# Altium schematic symbol library lib_ic_IC.SchLib: 28 symbols
Pins are listed as number, name and electrical type; pins without a type are passive.

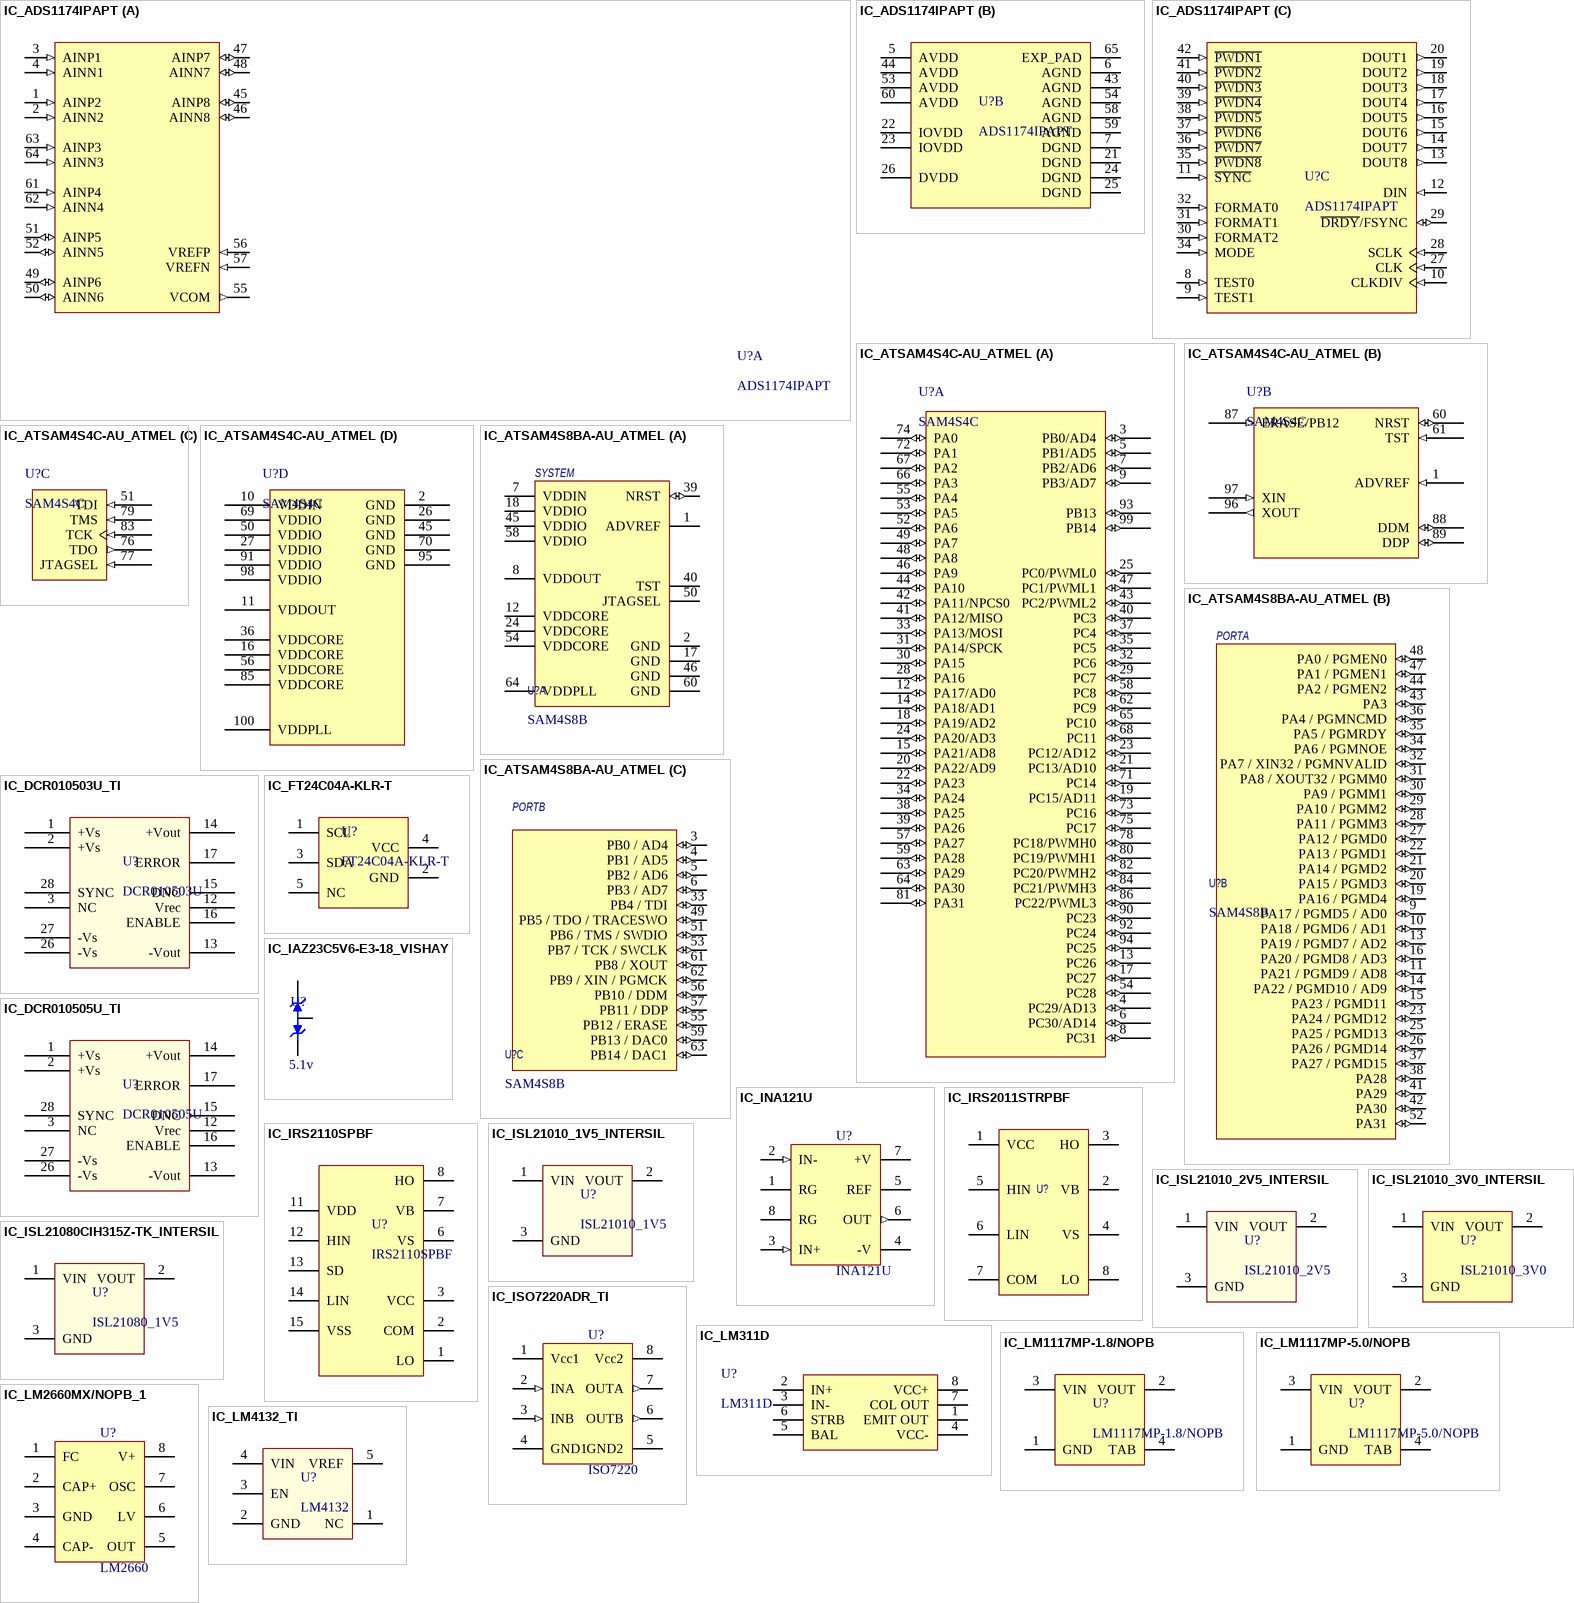
[diagram p0: symbols IC_ADS1174IPAPT to IC_LM4132_TI]

## IC_ADS1174IPAPT
designator U?, comment ADS1174IPAPT
Quad, Simultaneous Sampling, 16-Bit Analog-to-Digital Converter 64-HTQFP -40 to 85; MF: Texas Instruments; Digi-Key_Part_Number: 296-22951-1-ND; Check_prices: https://www.snapeda.com/parts/ADS1174IPAPT/Texas%20Instruments/view-part/2772521/?ref=eda; SnapEDA_Link: https://www.snapeda.com/parts/ADS1174IPAPT/Texas%20Instruments/view-part/2772521/?ref=snap; Package: HTQFP-64 Texas Instruments; Purchase-URL: https://pricing.snapeda.com/search/part/ADS1174IPAPT/?ref=eda; MP: ADS1174IPAPT; Value: *
footprint TFP410PAP
part A pins: 1 AINP2 (in), 2 AINN2 (in), 3 AINP1 (in), 4 AINN1 (in), 45 AINP8 (io), 46 AINN8 (io), 47 AINP7 (io), 48 AINN7 (io), 49 AINP6 (io), 50 AINN6 (io), 51 AINP5 (io), 52 AINN5 (io), 55 VCOM (out), 56 VREFP (in), 57 VREFN (in), 61 AINP4 (in), 62 AINN4 (in), 63 AINP3 (in), 64 AINN3 (in)
part B pins: 5 AVDD (power), 6 AGND (power), 7 DGND (power), 21 DGND (power), 22 IOVDD (power), 23 IOVDD (power), 24 DGND (power), 25 DGND (power), 26 DVDD (power), 43 AGND (power), 44 AVDD (power), 53 AVDD (power), 54 AGND (power), 58 AGND (power), 59 AGND (power), 60 AVDD (power), 65 EXP_PAD (power)
part C pins: 8 TEST0 (in), 9 TEST1 (in), 10 CLKDIV (in), 11 ~{SYNC} (in), 12 DIN (in), 13 DOUT8 (out), 14 DOUT7 (out), 15 DOUT6 (out), 16 DOUT5 (out), 17 DOUT4 (out), 18 DOUT3 (out), 19 DOUT2 (out), 20 DOUT1 (out), 27 CLK (in), 28 SCLK (in), 29 ~{DRDY}/FSYNC (io), 30 FORMAT2 (in), 31 FORMAT1 (in), 32 FORMAT0 (in), 34 MODE (in), 35 ~{PWDN8} (in), 36 ~{PWDN7} (in), 37 ~{PWDN6} (in), 38 ~{PWDN5} (in), 39 ~{PWDN4} (in), 40 ~{PWDN3} (in), 41 ~{PWDN2} (in), 42 ~{PWDN1} (in)

## IC_ATSAM4S4C-AU_ATMEL
designator U?, comment SAM4S4C
IC MCU 32BIT 256KB FLASH 100LQFP; Manufacturer: ATMEL; Manufacturer Part Number: ATSAM4S4CA-AU; Digikey Part Number: ATSAM4S4CA-AU-ND; Value: SAM4S4C; Mouser Part Number: 556-ATSAM4S4CA-AU
footprint TSQFP50P1600X1600-100N (Thin QFP, 100-Leads, Body 14x14mm, Pitch 0.5mm, IPC Medium Density)
part A pins: 3 PB0/AD4 (io), 4 PC29/AD13 (io), 5 PB1/AD5 (io), 6 PC30/AD14 (io), 7 PB2/AD6 (io), 8 PC31 (io), 9 PB3/AD7 (io), 12 PA17/AD0 (io), 13 PC26 (io), 14 PA18/AD1 (io), 15 PA21/AD8 (io), 17 PC27 (io), 18 PA19/AD2 (io), 19 PC15/AD11 (io), 20 PA22/AD9 (io), 21 PC13/AD10 (io), 22 PA23 (io), 23 PC12/AD12 (io), 24 PA20/AD3 (io), 25 PC0/PWML0 (io), 28 PA16 (io), 29 PC7 (io), 30 PA15 (io), 31 PA14/SPCK (io), 32 PC6 (io), 33 PA13/MOSI (io), 34 PA24 (io), 35 PC5 (io), 37 PC4 (io), 38 PA25 (io), 39 PA26 (io), 40 PC3 (io), 41 PA12/MISO (io), 42 PA11/NPCS0 (io), 43 PC2/PWML2 (io), 44 PA10 (io), 46 PA9 (io), 47 PC1/PWML1 (io), 48 PA8 (io), 49 PA7 (io), 52 PA6 (io), 53 PA5 (io), 54 PC28 (io), 55 PA4 (io), 57 PA27 (io), 58 PC8 (io), 59 PA28 (io), 62 PC9 (io), 63 PA29 (io), 64 PA30 (io), 65 PC10 (io), 66 PA3 (io), 67 PA2 (io), 68 PC11 (io), 71 PC14 (io), 72 PA1 (io), 73 PC16 (io), 74 PA0 (io), 75 PC17 (io), 78 PC18/PWMH0 (io), 80 PC19/PWMH1 (io), 81 PA31 (io), 82 PC20/PWMH2 (io), 84 PC21/PWMH3 (io), 86 PC22/PWML3 (io), 90 PC23 (io), 92 PC24 (io), 93 PB13 (io), 94 PC25 (io), 99 PB14 (io)
part B pins: 1 ADVREF (in), 60 NRST (io), 61 TST (in), 87 ERASE/PB12 (in), 88 DDM (io), 89 DDP (io), 96 XOUT (out), 97 XIN (in)
part C pins: 51 TDI (in), 76 TDO (out), 77 JTAGSEL (in), 79 TMS (in), 83 TCK (in)
part D pins: 2 GND (power), 10 VDDIN (power), 11 VDDOUT (power), 16 VDDCORE (power), 26 GND (power), 27 VDDIO (power), 36 VDDCORE (power), 45 GND (power), 50 VDDIO (power), 56 VDDCORE (power), 69 VDDIO (power), 70 GND (power), 85 VDDCORE (power), 91 VDDIO (power), 95 GND (power), 98 VDDIO (power), 100 VDDPLL (power)

## IC_ATSAM4S8BA-AU_ATMEL
designator U?, comment SAM4S8B
IC MCU 32BIT 512KB FLASH 64LQFP; Manufacturer: Atmel; Manufacturer Part Number: ATSAM4S8BA-AU; Value: ATSAM4S; BOM Populate: *; Digikey Part Number: ATSAM4S8BA-AU-ND; Power Rating: *; Supplier: *; Supplier Part No: *; Tolerance: *; Voltage Rating: *; Mouser Part Number: 556-ATSAM4S8BA-AU
footprint TQFP50P1000X1000X160-64N (TQFP, 64-Leads, Body 10,00x10,00mm, Pitch 0,50mm, IPC Medium Density)
part A pins: 1 ADVREF (power) "External RTC Battery", 2 GND (power) "Ground", 7 VDDIN (power) "Supply", 8 VDDOUT (power) "Supply", 12 VDDCORE (power) "Supply", 17 GND (power) "Ground", 18 VDDIO (power) "Supply", 24 VDDCORE (power) "Supply", 39 NRST (io) "Reset", 40 TST "Oscillator Input", 45 VDDIO (power) "Supply", 46 GND (power) "Ground", 50 JTAGSEL "Oscillator Output", 54 VDDCORE (power) "Supply", 58 VDDIO (power) "Supply", 60 GND (power) "Ground", 64 VDDPLL (power) "Supply"
part B pins: 9 PA17 / PGMD5 / AD0 (io), 10 PA18 / PGMD6 / AD1 (io), 11 PA21 / PGMD9 / AD8 (io), 13 PA19 / PGMD7 / AD2 (io) "Supply", 14 PA22 / PGMD10 / AD9 (io) "Supply", 15 PA23 / PGMD11 (io) "Supply", 16 PA20 / PGMD8 / AD3 (io) "Supply", 19 PA16 / PGMD4 (io) "Supply", 20 PA15 / PGMD3 (io) "Supply", 21 PA14 / PGMD2 (io), 22 PA13 / PGMD1 (io), 23 PA24 / PGMD12 (io), 25 PA25 / PGMD13 (io), 26 PA26 / PGMD14 (io) "Supply", 27 PA12 / PGMD0 (io), 28 PA11 / PGMM3 (io), 29 PA10 / PGMM2 (io), 30 PA9 / PGMM1 (io), 31 PA8 / XOUT32 / PGMM0 (io), 32 PA7 / XIN32 / PGMNVALID (io), 34 PA6 / PGMNOE (io), 35 PA5 / PGMRDY (io), 36 PA4 / PGMNCMD (io), 37 PA27 / PGMD15 (io) "Supply", 38 PA28 (io), 41 PA29 (io), 42 PA30 (io), 43 PA3 (io), 44 PA2 / PGMEN2 (io), 47 PA1 / PGMEN1 (io), 48 PA0 / PGMEN0 (io), 52 PA31 (io)
part C pins: 3 PB0 / AD4 (io), 4 PB1 / AD5 (io), 5 PB2 / AD6 (io), 6 PB3 / AD7 (io), 33 PB4 / TDI (io), 49 PB5 / TDO / TRACESWO (io), 51 PB6 / TMS / SWDIO (io), 53 PB7 / TCK / SWCLK (io), 55 PB12 / ERASE (io), 56 PB10 / DDM (io), 57 PB11 / DDP (io), 59 PB13 / DAC0 (io), 61 PB8 / XOUT (io), 62 PB9 / XIN / PGMCK (io), 63 PB14 / DAC1 (io)
part A text: SYSTEM
part B text: PORTA
part C text: PORTB

## IC_DCR010503U_TI
designator U?, comment DCR010503U
IC REG ISOLATED 3.3V 0.3A 12SOP; Digikey Part Number: 296-9450-5-ND; Mouser Part Number: 595-DCR010503U; Manufacturer Part Number: DCR010503U
footprint SOP28 (28-Pin Plastic Battery Snaphat Small Outline Package 1.27 mm Pitch)
pins: 1 +Vs, 2 +Vs, 3 NC, 12 Vrec, 13 -Vout, 14 +Vout, 15 DNC, 16 ENABLE, 17 ERROR, 26 -Vs, 27 -Vs, 28 SYNC

## IC_DCR010505U_TI
designator U?, comment DCR010505U
IC REG ISOLATED 5V 0.2A 12SOP; Digikey Part Number: 296-9451-5-ND; Mouser Part Number: 595-DCR010505U; Manufacturer Part Number: DCR010505U
footprint SOP28 (28-Pin Plastic Battery Snaphat Small Outline Package 1.27 mm Pitch)
pins: 1 +Vs, 2 +Vs, 3 NC, 12 Vrec, 13 -Vout, 14 +Vout, 15 DNC, 16 ENABLE, 17 ERROR, 26 -Vs, 27 -Vs, 28 SYNC

## IC_FT24C04A-KLR-T
designator U?, comment FT24C04A-KLR-T
Manufacturer: Fremont Micro Devices; Memory Type: Non-Volatile,EEPROM; Memory Size: 4Kb; Frequency: 1MHz; Access Time: 550ns; Supplier 1: Digi-Key; Supplier Part Number 1: 1219-1227-2-ND; Manufacturer Part Number: FT24C04A-KLR-T; RoHS: No; Category: Memory; Stock 1: 3000; Pricing 1: 3000=0,14616 (USD); Mount: Surface Mount; Case/Package: SOT-23-5; Min Operating Temperature: -40°C; Max Operating Temperature: 85°C; ComponentLink1URL: https://img1.wsimg.com/blobby/go/d0f1813f-418c-4780-8b0e-f456f226885c/downloads/1bs92tefg_846599.pdf?src-supplier=Digi-Key; ComponentLink1Description: https://img1.wsimg.com/blobby/go/d0f1813f-418c-4780-8b0e-f456f226885c/downloads/1bs92tefg_846599.pdf?src-supplier=Digi-Key
footprint SOT23-5AM (SOT23, 5-Leads, Body 2.9x1.7mm, Pitch 0.95mm, Lead Span 2.8mm, IPC Low Density)
pins: 1 SCL, 2 GND, 3 SDA, 4 VCC, 5 NC

## IC_IAZ23C5V6-E3-18_VISHAY
designator U?  Voltage: 5.1v  (hidden comment: *)
DIODE ZENER ARRAY 5.6V SOT23; Manufacturer Part Number: AZ23C5V6-E3-18; Digikey Part Number: AZ23C5V6-E3-18CT-ND; Mouser Part Number: 78-AZ23C5V6-E3-18
footprint SOT23-3M (SOT23, 3-Leads, Body 2.9x1.3mm, Pitch 0.95mm, Lead Span 2.5mm, IPC Low Density)
pins: 1, 2, 3

## IC_INA121U
designator U?, comment INA121U
IC OPAMP INSTR 600KHZ 8SOIC; Manufacturer Part Number: INA121UA; Digikey Part Number: INA121UA-ND; Mouser Part Number: 595-INA121UA
footprint SOIC127P600-8BN (SOIC, 8-Leads, Body 4.9x3.9mm, Pitch 1.27mm, IPC Medium Density)
pins: 1 RG, 2 IN- (in), 3 IN+ (in), 4 -V (power), 5 REF, 6 OUT (out), 7 +V (power), 8 RG

## IC_IRS2011STRPBF
designator U?, comment IRS2011STRPBF  (value not drawn)
Driver 200V 1A 2-OUT Hi/Lo Side Non-Inv 8-Pin SOIC T/R; Manufacturer: International Rectifier; Turn-On Delay Time: 20ns; Max Supply Current: 300uA; Max Supply Voltage: 20V; Min Supply Voltage: 10V; Number of Outputs: 2; Max Power Dissipation: 625mW; Fall Time: 35ns; Turn-Off Delay Time: 60ns; Rise Time: 40ns; Propagation Delay: 80ns; Supplier 1: Digi-Key; Supplier Part Number 1: IRS2011STRPBFCT-ND; Manufacturer Part Number: IRS2011STRPBF; RoHS: Yes; Category: Gate Drivers; Stock 1: 8711; Pricing 1: 1=1,95000, 10=1,74700, 25=1,64840, 100=1,31880, 250=1,15396, 500=1,12098, 1000=0,89019 (USD); Mount: Surface Mount; Case/Package: SOIC; Number of Pins: 8; Min Operating Temperature: -40°C; Max Operating Temperature: 125°C; Number of Drivers: 2; Power Dissipation: 625mW; Max Output Current: 1A; Packaging: Tape and Reel; Package Quantity: 2500; Output Current: 1A; Nominal Supply Current: 300uA; Length: 5mm; Width: 4mm; Height: 1.5mm; Radiation Hardening: No; Lead Free: Lead Free; ComponentLink1URL: https://datasheet.ciiva.com/15110/getdatasheetpartid-252136-15110090.pdf?src-supplier=Verical; ComponentLink1Description: https://datasheet.ciiva.com/15110/getdatasheetpartid-252136-15110090.pdf?src-supplier=Verical; ComponentLink2URL: https://datasheet.ciiva.com/26879/irs2011strpbf-26879930.pdf?src-supplier=IIIC; ComponentLink2Description: https://datasheet.ciiva.com/26879/irs2011strpbf-26879930.pdf?src-supplier=IIIC
footprint SOIC-SO8N
pins: 1 VCC, 2 VB, 3 HO, 4 VS, 5 HIN, 6 LIN, 7 COM, 8 LO

## IC_IRS2110SPBF
designator U?, comment IRS2110SPBF
IC,Dual MOSFET Driver,CMOS,SOP,16PIN,PLASTIC; Manufacturer: International Rectifier; Turn-On Delay Time: 10ns; Max Supply Current: 340uA; Max Supply Voltage: 20V; Min Supply Voltage: 10V; Max Power Dissipation: 1.25W; Number of Outputs: 2; Fall Time: 25ns; Release Time: 120ns; Rise Time: 35ns; Propagation Delay: 160ns; Max Output Current: 2.5A; Supplier 1: Digi-Key; Supplier Part Number 1: IRS2110SPBF-ND; Manufacturer Part Number: IRS2110SPBF; RoHS: Yes; Category: MOSFETs; Stock 1: 7235; Pricing 1: 1=2,65000, 10=2,38300, 25=2,24800, 100=1,79840, 250=1,57360, 500=1,52864, 1000=1,21392, 2500=1,16896, 5000=1,12400 (USD); Mount: Surface Mount; Case/Package: SOIC; Number of Pins: 16; Min Operating Temperature: -40°C; Max Operating Temperature: 125°C; Number of Drivers: 2; Turn-Off Delay Time: 10ns; Power Dissipation: 1.25W; Packaging: Rail/Tube; Output Current: 2.5A; Nominal Supply Current: 340uA; Package Quantity: 45; Length: 10.5mm; Width: 7.6mm; Height: 2.35mm; Radiation Hardening: No; REACH SVHC: No SVHC; Lead Free: Lead Free; ComponentLink1URL: https://datasheet.ciiva.com/16298/irs2110-16298887.pdf?src-supplier=Future+Electronics; ComponentLink1Description: https://datasheet.ciiva.com/16298/irs2110-16298887.pdf?src-supplier=Future+Electronics; ComponentLink2URL: https://datasheet.ciiva.com/1950/irs2110-1950490.pdf?src-supplier=Digi-Key; ComponentLink2Description: https://datasheet.ciiva.com/1950/irs2110-1950490.pdf?src-supplier=Digi-Key; ComponentLink3URL: https://datasheet.ciiva.com/1499/57913-1499806.pdf?src-supplier=Element14; ComponentLink3Description: https://datasheet.ciiva.com/1499/57913-1499806.pdf?src-supplier=Element14
footprint SOIC127P1030X265-16N
pins: 1 LO, 2 COM, 3 VCC, 6 VS, 7 VB, 8 HO, 11 VDD, 12 HIN, 13 SD, 14 LIN, 15 VSS

## IC_ISL21010_1V5_INTERSIL
designator U?, comment ISL21010_1V5
IC VREF SERIES 1.5V SOT23-3; Manufacturer Part Number: ISL21010CFH315Z-TK; Digikey Part Number: ISL21010CFH315Z-TKCT-ND; Mouser Part Number: 968-ISL21010CFH315ZT
footprint SOT23-3M (SOT23, 3-Leads, Body 2.9x1.3mm, Pitch 0.95mm, Lead Span 2.5mm, IPC Low Density)
pins: 1 VIN, 2 VOUT, 3 GND

## IC_ISL21010_2V5_INTERSIL
designator U?, comment ISL21010_2V5
IC VREF SERIES 2.5V SOT23-3; Manufacturer Part Number: ISL21010CFH325Z-TK; Digikey Part Number: ISL21010CFH325Z-TKCT-ND; Mouser Part Number: 968-ISL21010CFH325ZT
footprint SOT23-3M (SOT23, 3-Leads, Body 2.9x1.3mm, Pitch 0.95mm, Lead Span 2.5mm, IPC Low Density)
pins: 1 VIN, 2 VOUT, 3 GND

## IC_ISL21010_3V0_INTERSIL
designator U?, comment ISL21010_3V0
IC VREF SERIES 3V SOT23-3; Manufacturer Part Number: ISL21010CFH330Z-TK; Digikey Part Number: ISL21010CFH330Z-TKCT-ND; Mouser Part Number: 968-ISL21010CFH330ZT
footprint SOT23-3M (SOT23, 3-Leads, Body 2.9x1.3mm, Pitch 0.95mm, Lead Span 2.5mm, IPC Low Density)
pins: 1 VIN, 2 VOUT, 3 GND

## IC_ISL21080CIH315Z-TK_INTERSIL
designator U?, comment ISL21080_1V5
IC VREF SERIES 1.5V SOT23-3; Manufacturer Part Number: ISL21080CIH315Z-TK; Digikey Part Number: ISL21080CIH315Z-TKCT-ND; Mouser Part Number: 968-ISL21080CIH315ZT
footprint SOT23-3M (SOT23, 3-Leads, Body 2.9x1.3mm, Pitch 0.95mm, Lead Span 2.5mm, IPC Low Density)
pins: 1 VIN, 2 VOUT, 3 GND

## IC_ISO7220ADR_TI
designator U?, comment ISO7220
DGTL ISO 2.5KV GEN PURP 8SOIC; Manufacturer Part Number: ISO7220ADR; Digikey Part Number: 296-21952-1-ND; Mouser Part Number: 595-ISO7220ADR
footprint SOIC127P600-8BN (SOIC, 8-Leads, Body 4.9x3.9mm, Pitch 1.27mm, IPC Medium Density)
pins: 1 Vcc1, 2 INA (in), 3 INB (in), 4 GND1 (power), 5 GND2, 6 OUTB (out), 7 OUTA (out), 8 Vcc2

## IC_LM311D
designator U?, comment LM311D
Comparator Single 15V/30V 8-Pin SOIC Tube; Manufacturer: Texas Instruments; Max Supply Voltage: 30V; Min Supply Voltage: 3.5V; Min Dual Supply Voltage: 1.75V; Max Dual Supply Voltage: 15V; Number of Channels: 1; Input Offset Voltage (Vos): 7.5mV; Response Time: 165ns; Quiescent Current: 7.5mA; Input Bias Current: 250nA; Voltage Gain: 106.02dB; Output Type: TTL; Output Current: 50mA; Operating Supply Voltage: 28V; Dual Supply Voltage: 9V; Supplier 1: Digi-Key; Supplier Part Number 1: 296-1388-5-ND; Manufacturer Part Number: LM311D; Category: Amplifiers - Op Amps, Buffer, Instrumentation; Mount: Surface Mount; Case/Package: SOIC; Number of Pins: 8; Weight: 0.002561oz; Min Operating Temperature: 0°C; Max Operating Temperature: 70°C; Packaging: Rail/Tube; Package Quantity: 75; Number of Elements: 1; Nominal Supply Current: 7.5mA; Max Supply Current: 7.5mA; Type: General Purpose; Max Input Current: 250nA; Output Current per Channel: 50mA; Termination: SMD/SMT; Length: 4.9mm; Width: 3.91mm; Height: 1.58mm; Radiation Hardening: No; Lead Free: Lead Free; RoHS Compliant: Yes; REACH SVHC: No SVHC
footprint FP-D0008A-MFG
pins: 1 EMIT OUT, 2 IN+, 3 IN-, 4 VCC-, 5 BAL, 6 STRB, 7 COL OUT, 8 VCC+

## IC_LM1117MP-1.8/NOPB
designator U?, comment LM1117MP-1.8/NOPB
IC REG LDO 1.8V .8A SOT-223-4; Manufacturer: TI National Semiconductor; Number of Terminals/Pins: 4; Number of Outputs: 1; Max Input Voltage: 15V; Max Output Current: 800mA; Polarity: Positive; Quiescent Current: 10mA; Accuracy: 1%; Output Type: Fixed; Dropout Voltage: 1.2V; Min Input Voltage: 2.6V; Current Rating: 800A; Supplier 1: Digi-Key; Manufacturer Part Number: LM1117MP-1.8/NOPB; RoHS: Yes; Category: Voltage Regulators - Linear; Stock 1: 6695; Pricing 1: 1=1,10000, 10=0,98500, 25=0,93520, 100=0,71810, 250=0,63460, 500=0,60120 (USD); Mount: Surface Mount; Case/Package: SOT-223; Number of Pins: 4; Min Operating Temperature: 0°C; Max Operating Temperature: 125°C; Output Voltage: 1.8V; Output Current: 800mA; Packaging: Tape and Reel; Nominal Output Voltage: 1.8V; Output Voltage Accuracy: 1%; Package Quantity: 1000; Length: 6.5mm; Width: 3.56mm; Height: 1.6mm; Radiation Hardening: No; REACH SVHC: No SVHC; Lead Free: Lead Free; Supplier Part Number 1: LM1117MP-1.8/NOPBCT-ND
footprint SOT223-3L (SOT223, 4-Leads, Body 6.7x3.7mm, Pitch 2.3mm, IPC Low Density)
pins: 1 GND, 2 VOUT, 3 VIN, 4 TAB

## IC_LM1117MP-5.0/NOPB
designator U?, comment LM1117MP-5.0/NOPB
IC REG LDO 5V .8A SOT-223-4; Manufacturer: TI National Semiconductor; Max Output Current: 800mA; Number of Outputs: 1; Max Input Voltage: 15V; Polarity: Positive; Quiescent Current: 5mA; Accuracy: 1%; Output Type: Fixed; Dropout Voltage: 1.2V; Current Rating: 800A; Min Input Voltage: 2.6V; Max Supply Voltage: 12V; Max Supply Current: 10mA; Power Supply Rejection Ratio (PSRR): 75dB; Supplier 1: Digi-Key; Manufacturer Part Number: LM1117MP-5.0/NOPB; RoHS: Yes; Category: Voltage Regulators - Linear; Stock 1: 1093; Pricing 1: 1=1,17000, 10=1,04400, 25=0,99120, 100=0,76120, 250=0,67268, 500=0,63728 (USD); Mount: Surface Mount; Case/Package: SOT-223; Number of Pins: 4; Contact Plating: Tin,Matte; Min Operating Temperature: 0°C; Max Operating Temperature: 125°C; Output Voltage: 5V; Output Current: 800mA; Packaging: Tape and Reel; Nominal Output Voltage: 5V; Output Voltage Accuracy: 1%; Package Quantity: 1000; Number of Regulators: 1; Min Current Limit: 800mA; Series: -; Output Configuration: Positive; Length: 6.5mm; Width: 3.56mm; Height: 1.6mm; Radiation Hardening: No; REACH SVHC: No SVHC; Lead Free: Lead Free; RoHS Compliant: Yes; Supplier Part Number 1: LM1117MP-5.0/NOPBCT-ND
footprint SOT223-3L (SOT223, 4-Leads, Body 6.7x3.7mm, Pitch 2.3mm, IPC Low Density)
pins: 1 GND, 2 VOUT, 3 VIN, 4 TAB

## IC_LM2660MX/NOPB_1
designator U?, comment LM2660
IC REG SWTCHD CAP INV 0.1A 8SOIC; Manufacturer Part Number: LM2660MX/NOPB; Digikey Part Number: LM2660MX/NOPBCT-ND; Mouser Part Number: 926-LM2660MX/NOPB
footprint SOIC127P600-8BN (SOIC, 8-Leads, Body 4.9x3.9mm, Pitch 1.27mm, IPC Medium Density)
pins: 1 FC, 2 CAP+, 3 GND, 4 CAP- (power), 5 OUT, 6 LV, 7 OSC (power), 8 V+

## IC_LM4132_TI
designator U?, comment LM4132
IC VREF SERIES 2.5V SOT23-5; Manufacturer Part Number: LM4132CMF-2.5/NOPB; Digikey Part Number: LM4132CMF-2.5/NOPBCT-ND; Mouser Part Number: 926-LM4132CMF25NOPB
footprint SOT23-5AM (SOT23, 5-Leads, Body 2.9x1.7mm, Pitch 0.95mm, Lead Span 2.8mm, IPC Low Density)
pins: 1 NC, 2 GND, 3 EN, 4 VIN, 5 VREF

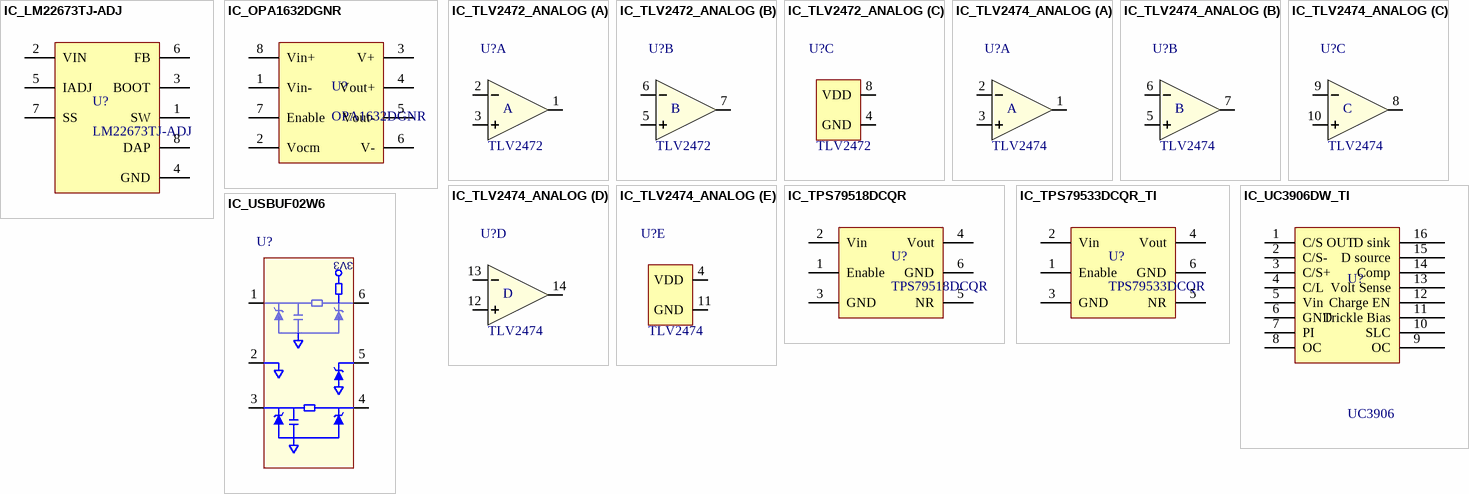
[diagram p1: symbols IC_LM22673TJ-ADJ to IC_USBUF02W6]

## IC_LM22673TJ-ADJ
designator U?, comment LM22673TJ-ADJ
3A SIMPLE SWITCHER® Step-Down Voltage Regulator with Adjustable Soft-Start and Current Limit, 7-pin TO-263 Thin; Manufacturer Part Number: LM22673TJ-ADJ/NOPB; Digikey Part Number: LM22673TJ-ADJ/NOPBCT-ND; Mouser Part Number: 926-LM22673TJADJNOPB
footprint TJ7A_N (D2-PAK, 8-Leads, Body 9.9x10.2mm, Pitch 1.27mm, Lead Span 14mm, IPC Medium Density)
pins: 1 SW (power), 2 VIN (power), 3 BOOT, 4 GND (power), 5 IADJ (power), 6 FB (power), 7 SS (power), 8 DAP (power)

## IC_OPA1632DGNR
designator U?, comment OPA1632DGNR
OP Amp Single GP ±16V 8-Pin HVSSOP EP T/R; Manufacturer: Texas Instruments; Max Power Dissipation: 2W; Common Mode Rejection Ratio: 74dB; Output Current: 85mA; Nominal Supply Current: 14mA; Max Supply Voltage: 32V; Min Supply Voltage: 5V; Slew Rate: 50V/µs; -3db Bandwidth: 180MHz; Min Dual Supply Voltage: 2.5V; Voltage Gain: 78dB; Number of Channels: 1; Input Bias Current: 2uA; Input Offset Voltage (Vos): 3mV; Power Supply Rejection Ratio (PSRR): 70dB; Supply Type: Single,Dual; Dual Supply Voltage: 15V; Supplier 1: Digi-Key; Supplier Part Number 1: 296-39099-1-ND; Manufacturer Part Number: OPA1632DGNR; RoHS: Yes; Category: Amplifiers - Op Amps, Buffer, Instrumentation; Stock 1: 13968; Pricing 1: 1=3,06000, 10=2,74400, 25=2,59440, 100=2,13310, 250=1,91400, 500=1,84480, 1000=1,53349 (USD); Case/Package: HTSSOP EP; Number of Pins: 8; Weight: 0.000861oz; Min Operating Temperature: -40°C; Max Operating Temperature: 85°C; Packaging: Tape and Reel; Package Quantity: 2500; Max Dual Supply Voltage: 16V; Nominal Gain Bandwidth Product: 180MHz; Gain Bandwidth Product: 180MHz; Operating Supply Current: 14mA; Number of Circuits: 1; Output Current per Channel: 85mA; Number of Elements: 1; Bandwidth: 180MHz; Radiation Hardening: No; Lead Free: Lead Free; ComponentLink1URL: https://datasheet.ciiva.com/15128/getdatasheetpartid-186903-15128441.pdf?src-supplier=Verical; ComponentLink1Description: https://datasheet.ciiva.com/15128/getdatasheetpartid-186903-15128441.pdf?src-supplier=Verical; ComponentLink2URL: https://datasheet.ciiva.com/1815/opa1632-1815755.pdf?src-supplier=Digi-Key; ComponentLink2Description: https://datasheet.ciiva.com/1815/opa1632-1815755.pdf?src-supplier=Digi-Key
pins: 1 Vin-, 2 Vocm, 3 V+, 4 Vout+, 5 Vout-, 6 V-, 7 Enable, 8 Vin+

## IC_TLV2472_ANALOG
designator U?  value TLV2472  (hidden comment: *)
IC OPAMP GP 2.8MHZ RRO 8SOIC; Manufacturer: Texas Instrument; Manufacturer Part Number: TLV2472CDR; Digikey Part Number: 296-2440-1-ND; Mouser Part Number: 595-TLV2472CDR
footprint SOIC127P600-8BN (SOIC, 8-Leads, Body 4.9x3.9mm, Pitch 1.27mm, IPC Medium Density)
part A pins: 1 OUTA, 2 INA-, 3 INA+
part B pins: 5 INB+, 6 INB-, 7 OUTB
part C pins: 4 GND, 8 VDD
part A text: A
part B text: B

## IC_TLV2474_ANALOG
designator U?  value TLV2474  (hidden comment: *)
IC OPAMP GP 2.8MHZ RRO 14SOIC; Manufacturer: Texas Instrument; Manufacturer Part Number: TLV2474CDR; BOM_Populate: *; Digikey Part Number: 296-2442-1-ND; Mouser Part Number: 595-TLV2474CDR
footprint SOIC127P600-14AN (SOIC, 14-Leads, Body 8.6x3.9mm, Pitch 1.27mm, IPC Medium Density)
part A pins: 1 OUTA, 2 INA-, 3 INA+
part B pins: 5 INB+, 6 INB-, 7 OUTB
part C pins: 8 OUTC, 9 INC-, 10 INC+
part D pins: 12 IND+, 13 IND-, 14 OUTD
part E pins: 4 VDD, 11 GND
part A text: A
part B text: B
part C text: C
part D text: D

## IC_TPS79518DCQR
designator U?, comment TPS79518DCQR
TEXAS INSTRUMENTS         TPS79518DCQR             Fixed LDO Voltage Regulator, 2.7V to 5.5V, 110mV Dropout, 1.8Vout, 500mAout, SOT-223-6; Output Current: 500mA; Output Voltage: 1.8V; Number of Outputs: 1; Input Bias Current: 265uA; Min Current Limit: 2.4A; Polarity: Positive; Output Voltage Accuracy: 2%; Quiescent Current: 260uA; Reference Voltage: 1.225V; Supplier 1: Digi-Key; Supplier Part Number 1: 296-13808-1-ND; Manufacturer: Texas Instruments; Manufacturer Part Number: TPS79518DCQR; RoHS: Yes; Category: Voltage Regulators - Linear; Stock 1: 2526; Pricing 1: 1=2,92000, 10=2,61800, 25=2,47520, 100=2,03500, 250=1,82600, 500=1,76000, 1000=1,46300 (USD); Case/Package: SOT-223; Number of Pins: 6; Contact Plating: Gold; Min Operating Temperature: -40°C; Max Operating Temperature: 125°C; Dropout Voltage: 110mV; Packaging: Tape and Reel; Package Quantity: 1; Max Output Current: 500mA; Max Input Voltage: 5.5V; Min Input Voltage: 2.7V; Number of Regulators: 1; Min Output Voltage: 1.8V; Accuracy: 2%; Max Output Voltage: 1.8V; Output Type: Fixed; Nominal Output Voltage: 1.8V; Radiation Hardening: No; REACH SVHC: No SVHC; Lead Free: Lead Free; ComponentLink1URL: https://datasheet.ciiva.com/22704/1829370-22704699.pdf?src-supplier=Element14; ComponentLink1Description: https://datasheet.ciiva.com/22704/1829370-22704699.pdf?src-supplier=Element14; ComponentLink2URL: https://datasheet.ciiva.com/41462/001015131-da-01-en-ic-reg-ldo-1-8v-0-tps79518dcqr-sot-6-tid-41462977.pdf?src-supplier=Conrad; ComponentLink2Description: https://datasheet.ciiva.com/41462/001015131-da-01-en-ic-reg-ldo-1-8v-0-tps79518dcqr-sot-6-tid-41462977.pdf?src-supplier=Conrad; ComponentLink3URL: https://datasheet.ciiva.com/28673/1887499-28673525.pdf?src-supplier=Element14; ComponentLink3Description: https://datasheet.ciiva.com/28673/1887499-28673525.pdf?src-supplier=Element14
footprint SOT223-6L (SOT223, 6-Leads, Body 6.5x3.5mm, Pitch 1.27mm, Lead Span 7mm, IPC High Density)
pins: 1 Enable, 2 Vin, 3 GND, 4 Vout, 5 NR, 6 GND

## IC_TPS79533DCQR_TI
designator U?, comment TPS79533DCQR
IC REG LIN 3.3V 500MA SOT223-6; Manufacturer Part Number: 595-TPS79533DCQR; Digikey Part Number: 296-13810-1-ND; Mouser Part Number: TPS79533DCQR
footprint SOT223-6L (SOT223, 6-Leads, Body 6.5x3.5mm, Pitch 1.27mm, Lead Span 7mm, IPC High Density)
pins: 1 Enable, 2 Vin, 3 GND, 4 Vout, 5 NR, 6 GND

## IC_UC3906DW_TI
designator U?, comment UC3906
IC LEAD-ACID BATT CHARGR 16-SOIC; Manufacturer Part Number: UC3906DW; Digikey Part Number: 296-2230-5-ND; Mouser Part Number: 595-UC3906DW
footprint SOIC127P600X173-16N (SOIC, 16-Leads, Body 9.9x3.9mm, Pitch 1.27mm, IPC Low Density)
pins: 1 C/S OUT, 2 C/S-, 3 C/S+, 4 C/L (power), 5 Vin, 6 GND, 7 PI (power), 8 OC, 9 OC, 10 SLC, 11 Trickle Bias, 12 Charge EN, 13 Volt Sense, 14 Comp, 15 D source, 16 D sink

## IC_USBUF02W6
designator U?  (value not drawn)
USB EMI Filter; Digikey Part Number: 497-3743-1-ND
footprint SOT65P210X110-6N (SOT23, 6-Leads, Body 2,2x2,4mm (max), Pitch 0,65mm, IPC Medium Density)
pins: 1 D1, 2 GND, 3 D2, 4 D4, 5 3V3, 6 D3